# EAGLE library part TPS6120*? (library TPS6120x)
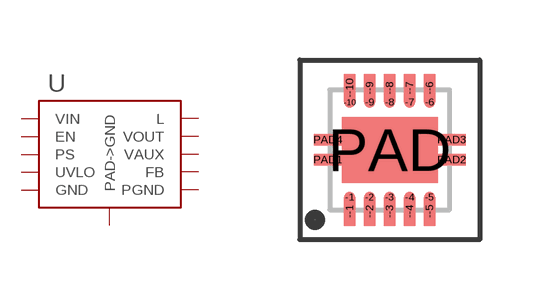
[diagram p0: symbol with the pads of TPS6120X_DRC; footprint TPS6120X_DRC]

Designator prefix U

## TPS61200DRC (V: variable), TPS61201DRC (V: 3.3v), TPS61202DRC (V: 5v)  [TPS6120X_DRC]
-1  VAUX
-2  VOUT  out
-3  L  in
-4  PGND  pwr
-5  VIN  in
-6  EN  in
-7  UVLO  in
-8  PS  in
-9  GND  pwr
-10  FB  in
--1  VAUX
--2  VOUT  out
--3  L  in
--4  PGND  pwr
--5  VIN  in
--6  EN  in
--7  UVLO  in
--8  PS  in
--9  GND  pwr
--10  FB  in
PAD  PAD->GND  pwr
PAD1  PAD->GND  pwr
PAD2  PAD->GND  pwr
PAD3  PAD->GND  pwr
PAD4  PAD->GND  pwr

## Footprint TPS6120X_DRC (pad centres in mm)
smd 0.28 x 0.28: -1 -1,-1.19; -2 -0.5,-1.19; -3 0,-1.19; -4 0.5,-1.19; -5 1,-1.19; -6 1,1.19; -7 0.5,1.19; -8 0,1.19; -9 -0.5,1.19; -10 -1,1.19
smd 0.28 x 0.71: --1 -1,-1.545; --2 -0.5,-1.545; --3 0,-1.545; --4 0.5,-1.545; --5 1,-1.545; --6 1,1.545; --7 0.5,1.545; --8 0,1.545; --9 -0.5,1.545; --10 -1,1.545
smd 2.4 x 1.65: PAD 0,0
smd 0.7 x 0.28: PAD1 -1.55,-0.25; PAD2 1.55,-0.25; PAD3 1.55,0.25; PAD4 -1.55,0.25